# Altium footprint library 691 312 710 0xx.PcbLib: 6 footprints
Each footprint in its own frame and in the unit in brackets; x right, y up, seen from the top. Pads: shape width x height; smd on the part's side, far side on the other; paste and mask are expansions set on the pad; w line width, h text height; cw(c..) or ccw(c..) is an arc to the next point about the centre after c.
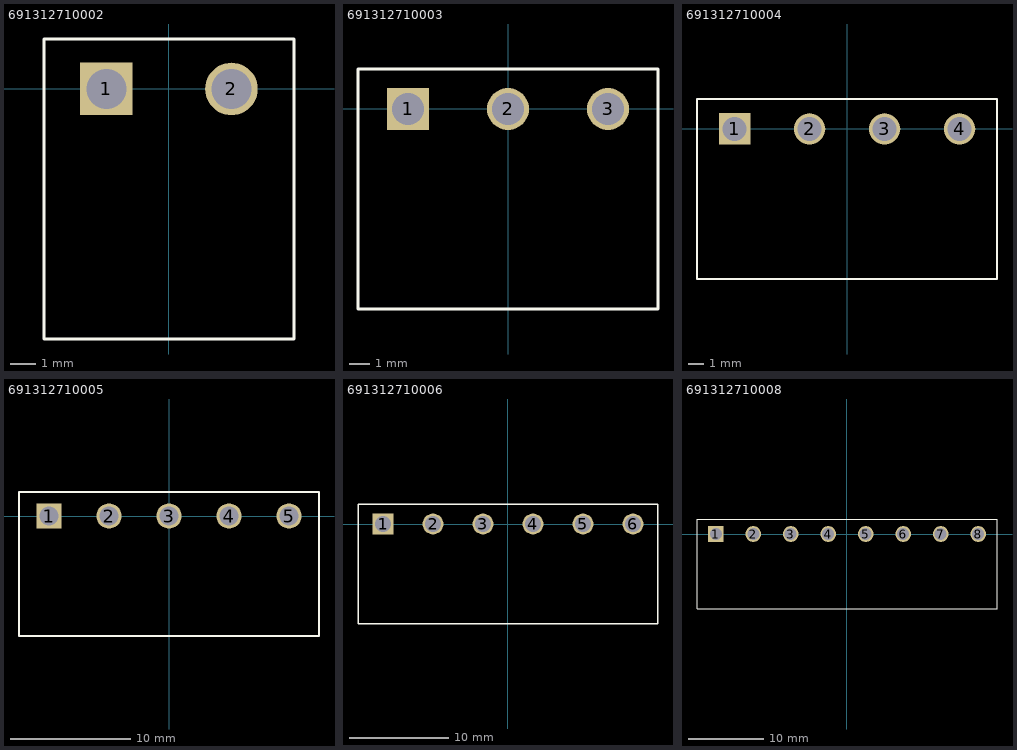
[diagram p0: the footprints below, top view; thin cyan lines are the x and y axes]

## 691312710002 [mm] "5.00mm - Open Horizhontal PCB Header - 02p"
height 8.5
pads (2):
  rect 2.1x2.1 hole 1.6: 1(-2.5,0)
  round 2.1 hole 1.6: 2(2.5,0)
Top Overlay:
  lines w0.127: -5,-10 5,-10 5,2 -5,2 -5,-10
3D body: height 8.56, standoff -3.94, extent -5,-10 5,2

## 691312710003 [mm] "5.00mm - Open Horizhontal PCB Header - 03p"
height 8.5
pads (3):
  rect 2.1x2.1 hole 1.6: 1(-5,0)
  round 2.1 hole 1.6: 2(0,0) 3(5,0)
Top Overlay:
  lines w0.127: -7.5,-10 7.5,-10 7.5,2 -7.5,2 -7.5,-10
3D body: height 8.56, standoff -3.94, extent -7.5,-10 7.5,2

## 691312710004 [mm] "5.00mm - Open Horizhontal PCB Header - 04p"
height 8.5
pads (4):
  rect 2.1x2.1 hole 1.6: 1(-7.5,0)
  round 2.1 hole 1.6: 2(-2.5,0) 3(2.5,0) 4(7.5,0)
Top Overlay:
  lines w0.127: -10,-10 -10,2 10,2 10,-10 -10,-10
3D body: height 8.56, standoff -3.94, extent -10,-10 10,2

## 691312710005 [mm] "5.00mm - Open Horizhontal PCB Header - 05p"
height 8.5
pads (5):
  rect 2.1x2.1 hole 1.6: 1(-10,0)
  round 2.1 hole 1.6: 2(-5,0) 3(0,0) 4(5,0) 5(10,0)
Top Overlay:
  lines w0.127: -12.5,-10 -12.5,2 12.5,2 12.5,-10 -12.5,-10
3D body: height 8.56, standoff -3.94, extent -12.5,-10 12.5,2

## 691312710006 [mm] "5.00mm - Open Horizhontal PCB Header - 06p"
height 8.5
pads (6):
  rect 2.1x2.1 hole 1.6: 1(-12.5,0)
  round 2.1 hole 1.6: 2(-7.5,0) 3(-2.5,0) 4(2.5,0) 5(7.5,0) 6(12.5,0)
Top Overlay:
  lines w0.127: -15,-10 15,-10 15,2 -15,2 -15,-10
3D body: height 8.56, standoff -3.94, extent -15,-10 15,2

## 691312710008 [mm] "5.00mm - Open Horizhontal PCB Header - 08p"
height 8.5
pads (8):
  rect 2.1x2.1 hole 1.6: 1(-17.5,0)
  round 2.1 hole 1.6: 2(-12.5,0) 3(-7.5,0) 4(-2.5,0) 5(2.5,0) 6(7.5,0) 7(12.5,0) 8(17.5,0)
Top Overlay:
  lines w0.127: -20,-10 -20,2 20,2 20,-10 -20,-10
3D body: height 8.56, standoff -3.94, extent -20,-10 20,2